# Altium schematic symbol library 降压模块.SchLib: 6 symbols
Pins are listed as number, name and electrical type; pins without a type are passive.

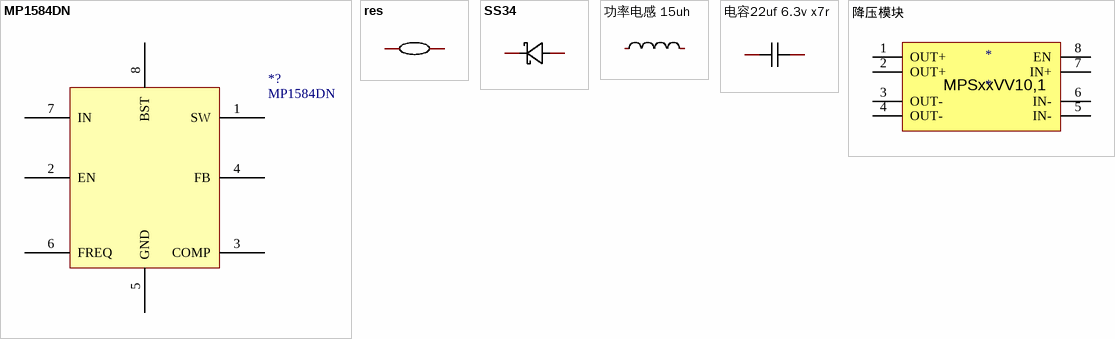
[diagram p0: symbols MP1584DN to 降压模块]

## MP1584DN
designator *?
footprint LC-SOIC-8_EP_150mil
pins: 1 SW, 2 EN, 3 COMP, 4 FB, 5 GND, 6 FREQ, 7 IN, 8 BST

## res
designator R??, comment 电阻  (value not drawn)
Manufacturer: FH(风华); Name: 210kΩ; Symbol: RS-03K2103FT; Add into BOM: yes; Value: 210kΩ; Tolerance: ±1%; Power(Watts): 100mW; Temperature Coefficient: ±100ppm/℃; Overload Voltage (Max): 50V; Device: RS-03K2103FT; LCSC Part Name: 210kΩ ±1% 100mW; Supplier Part: C304716; Manufacturer Part: RS-03K2103FT; Supplier Footprint: 0603; JLCPCB Part Class: Extended Part; Datasheet: https://atta.szlcsc.com/upload/public/pdf/source/20181008/C304716_9BC739B48A9CEB835AD69263E841A8EC.pdf; Supplier: LCSC; Convert to PCB: yes; Operating Temperature Range: -55℃~+155℃
footprint R0603
3D model R0603
pins: 1, 2

## SS34
designator D??, comment 型号： SS34 品牌： TWGMC(台湾迪嘉) 封装： SMA 二极管配置：独立式 直流反向耐压(Vr)：40V 平均整流电流(Io)：3A 正向压降(Vf)：550mV@3A 二极管配置：独立式 直流反向耐压(Vr)：40V 平均整流电流(Io)：3A 正向压降(Vf)：950mV@3A  (value not drawn)
Symbol: SS34_C727060; Add into BOM: yes; Diode Configuration: 独立式; Reverse Voltage (Vr): 40V; Average Rectified Current (Io): 3A; Reverse Leakage Current (Ir): 500uA@40V; Name: SS34; Device: SS34_C727060; LCSC Part Name: 40V 3A 550mV@3A; Supplier Part: C727060; Manufacturer: TWGMC(台湾迪嘉); Manufacturer Part: SS34; Supplier Footprint: SMA; JLCPCB Part Class: Extended Part; Datasheet: https://atta.szlcsc.com/upload/public/pdf/source/20200828/C727059_6599B6CAC5F3238B9C33E46794659DBE.pdf; Supplier: LCSC; Convert to PCB: yes; Forward Voltage (Vf@If): 550mV@3A
footprint SMA_L4.3-W2.5-LS5.0-RD
3D model SMA_L4.3-W2.5-LS5.0-RD
pins: 1 C, 2 A

## 功率电感 15uh
designator L??, comment MWSA1004S-150MT_C151872  (value not drawn)
15uh 功率电感  用于5v降压模块 型号： MWSA1004S-150MT / 品牌： Sunlord(顺络)     电感值：15uH 精度：±20% 额定电流：6.5A 饱和电流(Isat)：7A; Symbol: MWSA1004-150MT; Add into BOM: yes; Tolerance: ±20%; Rated Current: 6.5A; Saturation Current (Isat): 7A; DC Resistance (DCR): 45mΩ; Name: 15uH; Device: MWSA1004S-150MT_C151872; LCSC Part Name: 15uH ±20% 7A; Supplier Part: C151872; Manufacturer: Sunlord(顺络); Manufacturer Part: MWSA1004S-150MT; Supplier Footprint: SMD; JLCPCB Part Class: Extended Part; Datasheet: https://atta.szlcsc.com/upload/public/pdf/source/20180327/C151872_2907C77BE933212C728C209604192B1D.pdf; Supplier: LCSC; Convert to PCB: yes; Type: -; Value: 15uH; Ratings: -
footprint IND-SMD_L11.5-W10.5_MWSA1004
3D model IND-SMD_L10.5-W11.5-H4.0
pins: 1, 2

## 电容22uf 6.3v x7r
designator C??, comment CGA5L1X7R0J226MT0Y0E  (value not drawn)
型号： CGA5L1X7R0J226MT0Y0E / 品牌： TDK / 封装： 1206 / 描述：容值：22uF 精度：±20% 额定电压：6.3V 材质(温度系数)：X7R; Name: 22uF; Add into BOM: yes; Value: 22uF; Tolerance: ±20%; Voltage Rated: 6.3V; Temperature Coefficient: X7R; Symbol: CGA5L1X7R0J226MT0Y0E; Device: CGA5L1X7R0J226MT0Y0E; LCSC Part Name: 22uF ±20% 6.3V; Supplier Part: C342630; Manufacturer: TDK; Manufacturer Part: CGA5L1X7R0J226MT0Y0E; Supplier Footprint: 1206; JLCPCB Part Class: Extended Part; Datasheet: https://atta.szlcsc.com/upload/public/pdf/source/20190716/C342630_ADB15E5CCD286B86322CE8B53B7BBFDA.pdf; Supplier: LCSC; Convert to PCB: yes
footprint C1206
3D model C1206_L3.2-W1.6-H1.3
pins: 1, 2

## 降压模块
designator *
pins: 1 OUT+, 2 OUT+, 3 OUT-, 4 OUT-, 5 IN-, 6 IN-, 7 IN+, 8 EN
text: MPSxxVV10,1